# EAGLE library part A4950_MODULE (library masterclock)
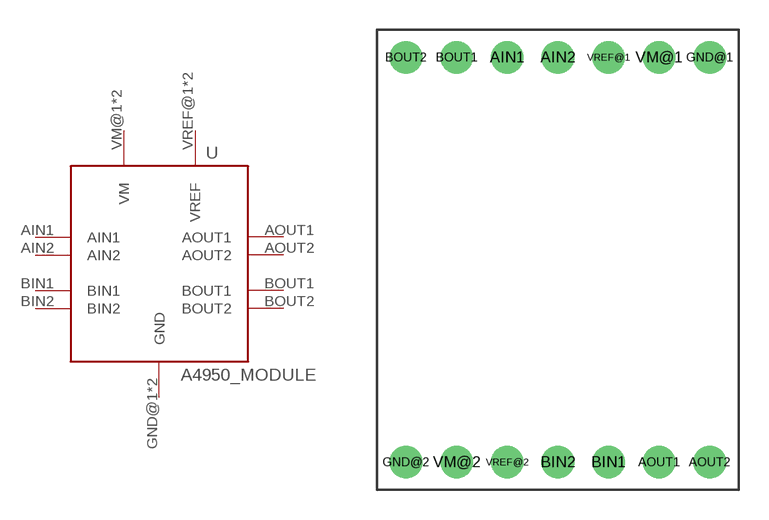
[diagram p0: symbol with the pads of A4950_MODULE; footprint A4950_MODULE]

Designator prefix -

## A4950_MODULE  [A4950_MODULE]
AIN1  AIN1  in
AIN2  AIN2  in
AOUT1  AOUT1  out
AOUT2  AOUT2  out
BIN1  BIN1  in
BIN2  BIN2  in
BOUT1  BOUT1  out
BOUT2  BOUT2  out
GND@1  GND  pwr
GND@2  GND  pwr
VM@1  VM  pwr
VM@2  VM  pwr
VREF@1  VREF  pwr
VREF@2  VREF  pwr

## Footprint A4950_MODULE (pad centres in mm)
drill 0.8 pad 1.64: AIN1 -2.54,10.16; AIN2 0,10.16; AOUT1 5.08,-10.16; AOUT2 7.62,-10.16; BIN1 2.54,-10.16; BIN2 0,-10.16; BOUT1 -5.08,10.16; BOUT2 -7.62,10.16; GND@1 7.62,10.16; GND@2 -7.62,-10.16; VM@1 5.08,10.16; VM@2 -5.08,-10.16; VREF@1 2.54,10.16; VREF@2 -2.54,-10.16